# Altium footprint library OBC Development Board.PcbLib: 19 footprints (part 2 of 2)
Each footprint in its own frame and in the unit in brackets; x right, y up, seen from the top. Pads: shape width x height; smd on the part's side, far side on the other; paste and mask are expansions set on the pad; w line width, h text height; cw(c..) or ccw(c..) is an arc to the next point about the centre after c.
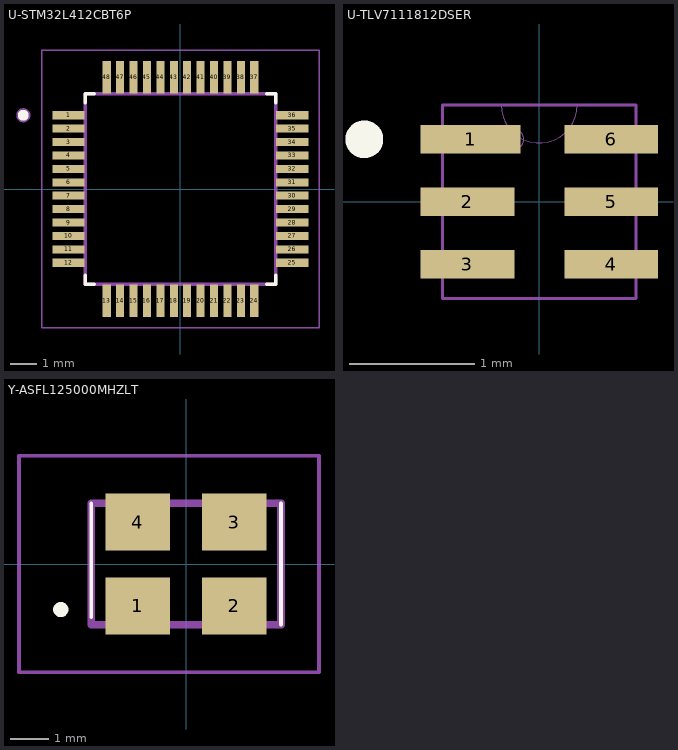
[diagram p1: the footprints below, top view; thin cyan lines are the x and y axes]

## U-STM32L412CBT6P [mm]
pads (48):
  rrect0% 1.2x0.3 smd: 1(-4.17,2.75) 2(-4.17,2.25) 3(-4.17,1.75) 4(-4.17,1.25) 5(-4.17,0.75) 6(-4.17,0.25) 7(-4.17,-0.25) 8(-4.17,-0.75) 9(-4.17,-1.25) 10(-4.17,-1.75) 11(-4.17,-2.25) 12(-4.17,-2.75) 25(4.17,-2.75) 26(4.17,-2.25) 27(4.17,-1.75) 28(4.17,-1.25) 29(4.17,-0.75) 30(4.17,-0.25) 31(4.17,0.25) 32(4.17,0.75) 33(4.17,1.25) 34(4.17,1.75) 35(4.17,2.25) 36(4.17,2.75)
  rrect0% 0.3x1.2 smd: 13(-2.75,-4.17) 14(-2.25,-4.17) 15(-1.75,-4.17) 16(-1.25,-4.17) 17(-0.75,-4.17) 18(-0.25,-4.17) 19(0.25,-4.17) 20(0.75,-4.17) 21(1.25,-4.17) 22(1.75,-4.17) 23(2.25,-4.17) 24(2.75,-4.17) 37(2.75,4.17) 38(2.25,4.17) 39(1.75,4.17) 40(1.25,4.17) 41(0.75,4.17) 42(0.25,4.17) 43(-0.25,4.17) 44(-0.75,4.17) 45(-1.25,4.17) 46(-1.75,4.17) 47(-2.25,4.17) 48(-2.75,4.17)
Top Overlay:
  circle w0.2: c-5.86,2.75 r0.1
  lines w0.127: -3.55,-3.21 -3.55,-3.55 -3.21,-3.55 ; -3.55,3.21 -3.55,3.55 -3.21,3.55 ; 3.21,-3.55 3.55,-3.55 3.55,-3.21 ; 3.21,3.55 3.55,3.55 3.55,3.21
Mechanical 13:
  circle w0.2: c-5.86,2.75 r0.162
  lines w0.127: -3.55,-3.55 -3.55,3.55 3.55,3.55 3.55,-3.55 -3.55,-3.55
Mechanical 15:
  lines w0.05: -5.165,-5.165 -5.165,5.165 5.165,5.165 5.165,-5.165 -5.165,-5.165
3D body "STM32L412CBT6P.STEP": height 1.59, standoff -0.01, extent -4.5,-4.5 4.5,4.5

## U-TLV7111812DSER [mm]
pads (12):
  rect 0.8x0.23 smd paste-0.14 mask+0: 1(-0.55,0.5)
  rect 0.75x0.23 smd paste-0.14 mask+0: 2(-0.575,0) 3(-0.575,-0.5) 4(0.575,-0.5) 5(0.575,0) 6(0.575,0.5)
  rect 0.75x0.23 on Top Paste paste-0.14 mask+0: ""(-0.575,-0.5) ""(-0.575,0) ""(0.575,-0.5) ""(0.575,0) ""(0.575,0.5)
  rect 0.8x0.23 on Top Paste paste-0.14 mask+0: ""(-0.55,0.5)
Top Overlay:
  circle w0.2: c-1.4,0.5 r0.051
Mechanical 13:
  circle w0: c-0.2,0.5 r0.076
  lines w0: -0.305,0.775 ccw(c0,0.775) 0.305,0.775
  lines w0.025: -0.775,-0.775 -0.775,0.775 0.775,0.775 0.775,-0.775 -0.775,-0.775
3D body "DSE6_TEX.step": height 0.8, standoff 0, extent -0.775,-0.775 0.775,0.775

## Y-ASFL125000MHZLT [mm]
pads (4):
  rect 1.7x1.5 smd: 1(-1.27,-1.1) 2(1.27,-1.1) 3(1.27,1.1) 4(-1.27,1.1)
Top Overlay:
  lines w0.1: -2.5,-1.4 -2.5,1.6 ; 2.5,-1.6 2.5,1.6
  lines w0.2: -3.4,-1.2 cw(c-3.3,-1.2) -3.2,-1.2 cw(c-3.3,-1.2) -3.4,-1.2
Mechanical 13:
  lines w0.2: -2.5,-1.6 -2.5,1.6 2.5,1.6 2.5,-1.6 -2.5,-1.6
Mechanical 15:
  lines w0.1: -4.4,-2.85 -4.4,2.85 3.5,2.85 3.5,-2.85 -4.4,-2.85
3D body "ASFL1-25.000MHZ-L-T.stp": height 1.4, standoff 0, extent -2.5,-1.7 2.5,1.7